# EAGLE library part 10118192-0001LF (library Reichelt-MIC_USB_BBU-10118192-0001LF)
Single Port 5 Contact Horizontal Right Angle Shielded Micro B USB 2.0 Connector Check availability <https://pricing.snapeda.com/parts/10118192-0001LF/AMPHENOL%20ICC%20/%20FCI/view-part?ref=eda>
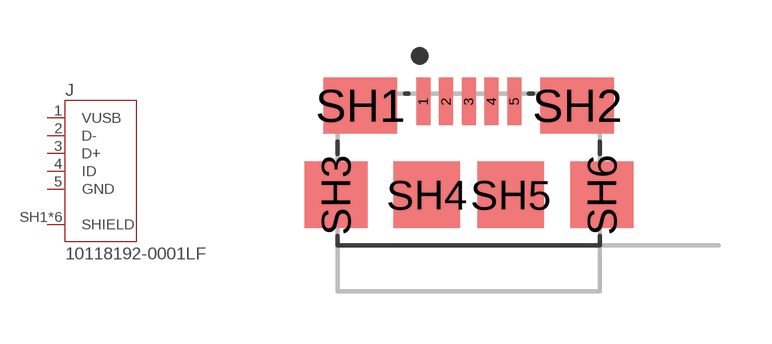
[diagram p0: symbol with the pads of AMPHENOL_10118192-0001LF; footprint AMPHENOL_10118192-0001LF]

Designator prefix J

## 10118192-0001LF (Availability: In Stock; Description: Micro USB, Input Output Connectors, B TYPE RECEPTACLE with flange; MF: AMPHENOL ICC / FCI; MP: 10118192-0001LF; Package: None; Price: None)  [AMPHENOL_10118192-0001LF]
1  VUSB  pas
2  D-  pas
3  D+  pas
4  ID  pas
5  GND  pas
SH1  SHIELD  pas
SH2  SHIELD  pas
SH3  SHIELD  pas
SH4  SHIELD  pas
SH5  SHIELD  pas
SH6  SHIELD  pas

## Footprint AMPHENOL_10118192-0001LF (pad centres in mm)
smd 0.4 x 1.35: 1 -1.3,0; 2 -0.65,0; 3 0,0; 4 0.65,0; 5 1.3,0
smd 2.1 x 1.6: SH1 -3.1,-0.125; SH2 3.1,-0.125
smd 1.8 x 1.9: SH3 -3.8,-2.675; SH6 3.8,-2.675
smd 1.9 x 1.9: SH4 -1.2,-2.675; SH5 1.2,-2.675